# Altium footprint library Keystone Battery.PcbLib: 1 footprints
Each footprint in its own frame and in the unit in brackets; x right, y up, seen from the top. Pads: shape width x height; smd on the part's side, far side on the other; paste and mask are expansions set on the pad; w line width, h text height; cw(c..) or ccw(c..) is an arc to the next point about the centre after c.
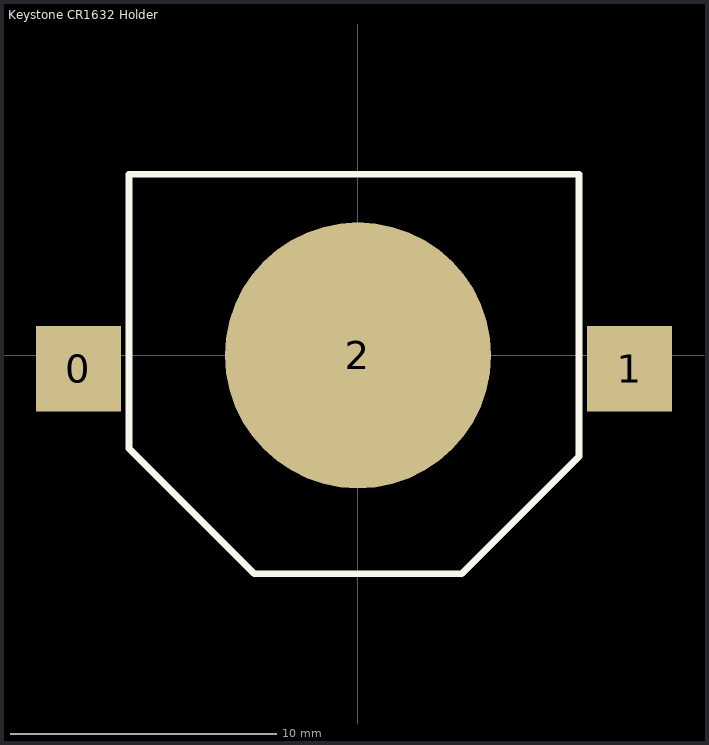
[diagram p0: the footprint, top view; thin cyan lines are the x and y axes]

## Keystone CR1632 Holder [mm]
height 0.081
pads (3):
  rect 3.2x3.2 smd: 0(-10.5,-0.5) 1(10.2,-0.5)
  round 10 smd: 2(0,0)
Top Overlay:
  lines w0.254: -8.6,-3.5 -3.9,-8.2 3.9,-8.2 8.3,-3.8 8.3,6.8 -8.6,6.8 -8.6,-3.5